# Altium integrated library Linear Technology Power Management Switching Regulator LT1074-LT8705.IntLib: 2252 symbols (part 21 of 148)
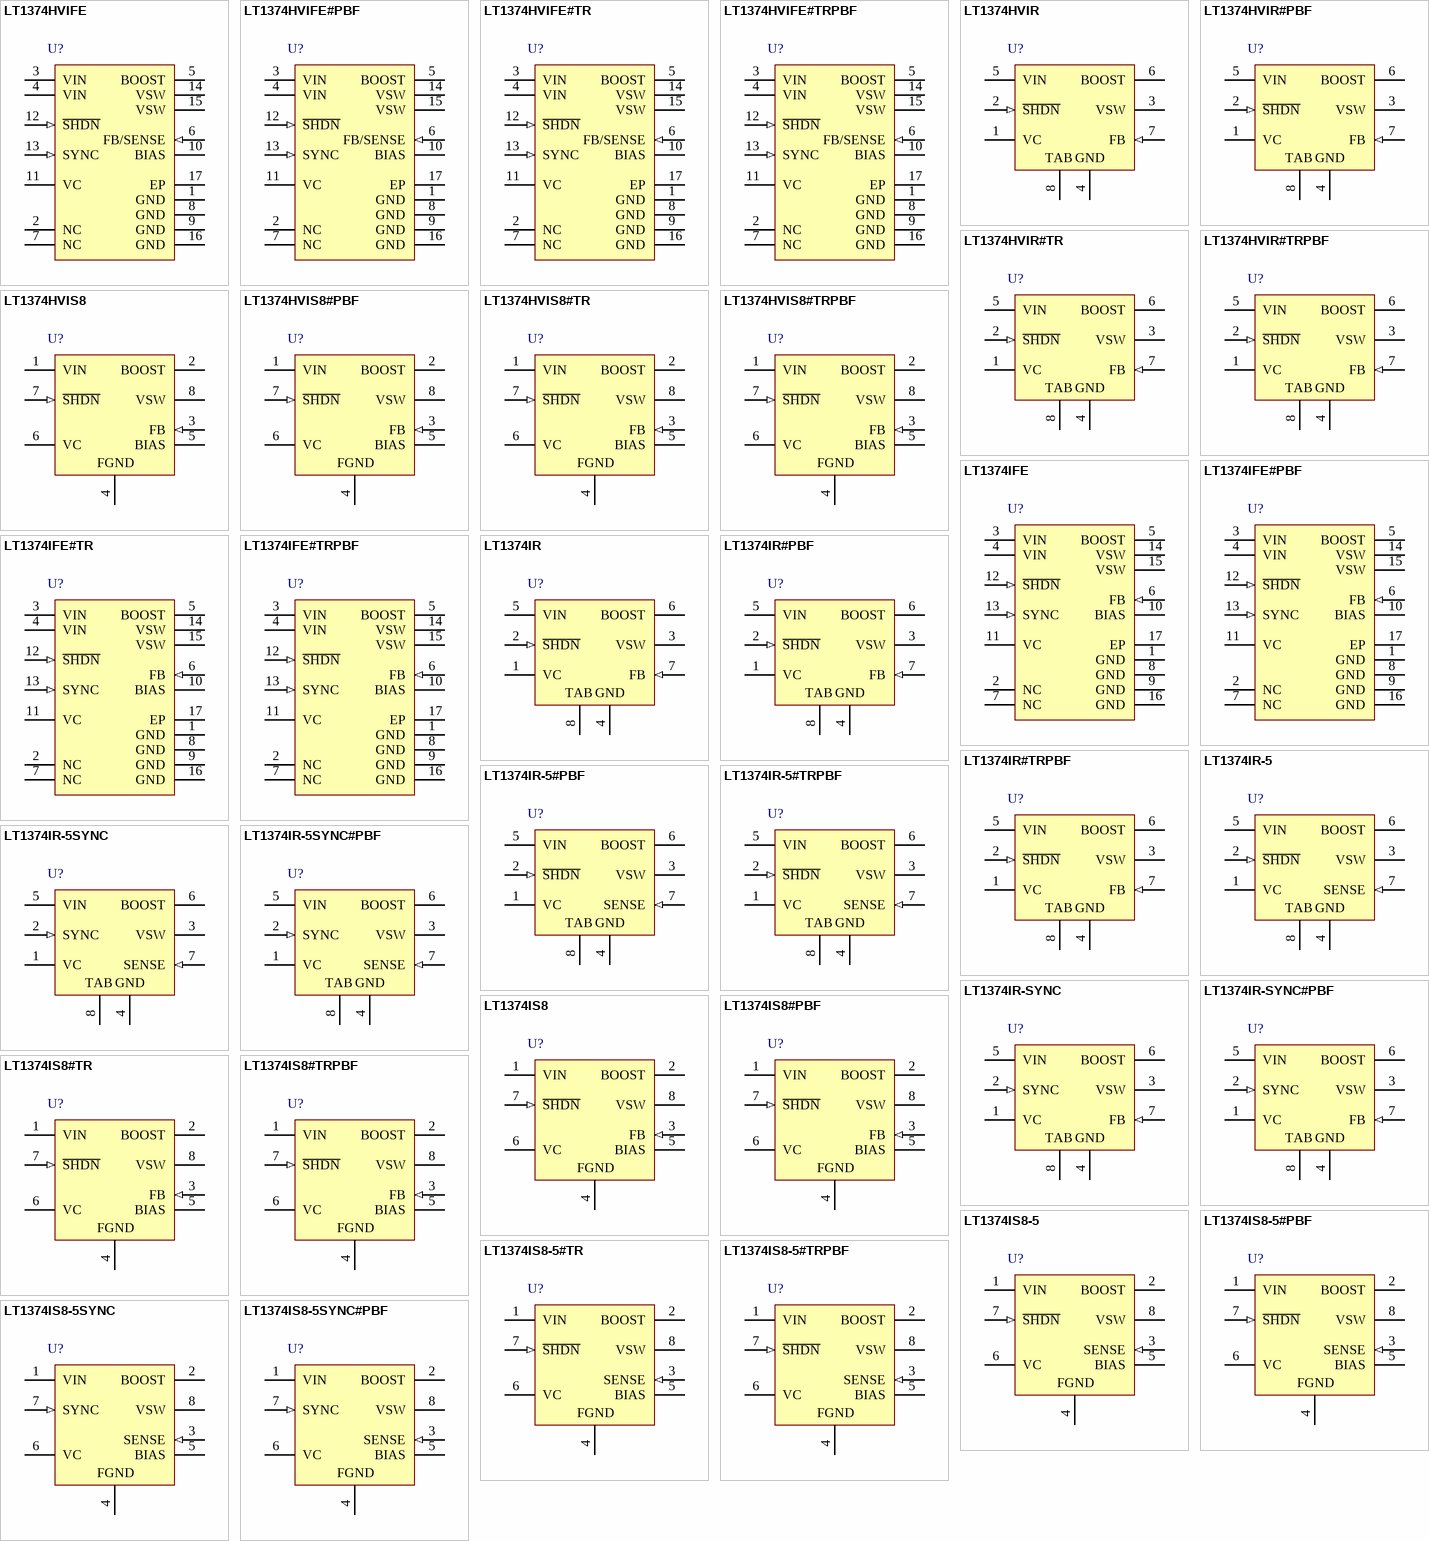
[diagram p91: symbols LT1374HVIFE to LT1374IS8-5SYNC#PBF]

## LT1374IS8-5SYNC#PBF
designator U?
4.5 A, 500 kHz Step-Down Switching Regulator, 8-pin SOIC (S8-8), -40 to 125 degC, Pb-Free; Manufacturer: Linear Technology; PartNumber: LT1374IS8-5SYNC#PBF; Frequency Sync Range: 580kHz - 1MHz; Number of Outputs: 1; DatasheetVersion: Rev. D; PackageVersion: Rev. G, 03/2012; PackageReference: S8-8; PackageDescription: 8-Pin Plastic Small Outline (Narrow .150 Inch), Body 4.9 x 3.9 mm, Pitch 1.27 mm; Supplier 1: Digi-Key; Supplier Part Number 1: LT1374IS8-5SYNC#PBF-ND; RoHS: TRUE; Mounting Technology: Surface Mount; ComponentLink1Description: Manufacturer URL; ComponentLink1URL: http://www.linear.com/; ComponentLink2Description: Datasheet; ComponentLink2URL: http://cds.linear.com/docs/en/datasheet/1374fd.pdf; ComponentLink3Description: Package Specification; ComponentLink3URL: http://cds.linear.com/docs/en/packaging/05081610_G_SO8.pdf
footprint LT-S8-8_N (SOIC, 8-Leads, Body 5x4mm, Pitch 1.27mm, IPC Medium Density)
footprint LT-S8-8_L (SOIC, 8-Leads, Body 5x4mm, Pitch 1.27mm, IPC High Density)
footprint LT-S8-8_M (SOIC, 8-Leads, Body 5x4mm, Pitch 1.27mm, IPC Low Density)
pins: 1 VIN (power) "This is the collector of the on-chip power NPN switch. This pin powers the internal circuitry and internal regulator when the BIAS pin is not present. At NPN switch on and off, high dI/dt edges occur on this pin. Keep the (See Datasheet)", 2 BOOST "The BOOST pin is used to provide a drive voltage, higher than the input voltage, to the internal bipolar NPN power switch. Without this added voltage, the typical switch voltage loss would be about 1.5V. The additional boost (See Datasheet)", 3 SENSE (in) "The feedback pin is the input to the error amplifier which is referenced to an internal 2.42V source. An external resistive divider is used to set the output voltage. The fixed voltage (-5) parts have the divider included (See Datasheet)", 4 FGND (power), 5 BIAS (power) "The BIAS pin is used to improve efficiency when operating at higher input voltages and light load current. Connecting this pin to the regulated output voltage forces most of the internal circuitry to draw its operating (See Datasheet)", 6 VC "The VC pin is the output of the error amplifier and the input of the peak switch current comparator. It is normally used for frequency compensation, but can do double duty as a current clamp or control loop override. This (See Datasheet)", 7 SYNC (in) "The sync pin is used to synchronize the internal oscillator to an external signal. It is directly logic compatible and can be driven with any signal between 10% and 90% duty cycle. The synchronizing range is equal to initial (See Datasheet)", 8 VSW (power) "The switch pin is the emitter of the on-chip power NPN switch. This pin is driven up to the input pin voltage during switch on time. Inductor current drives the switch pin negative during switch off time. Negative voltage is (See Datasheet)"

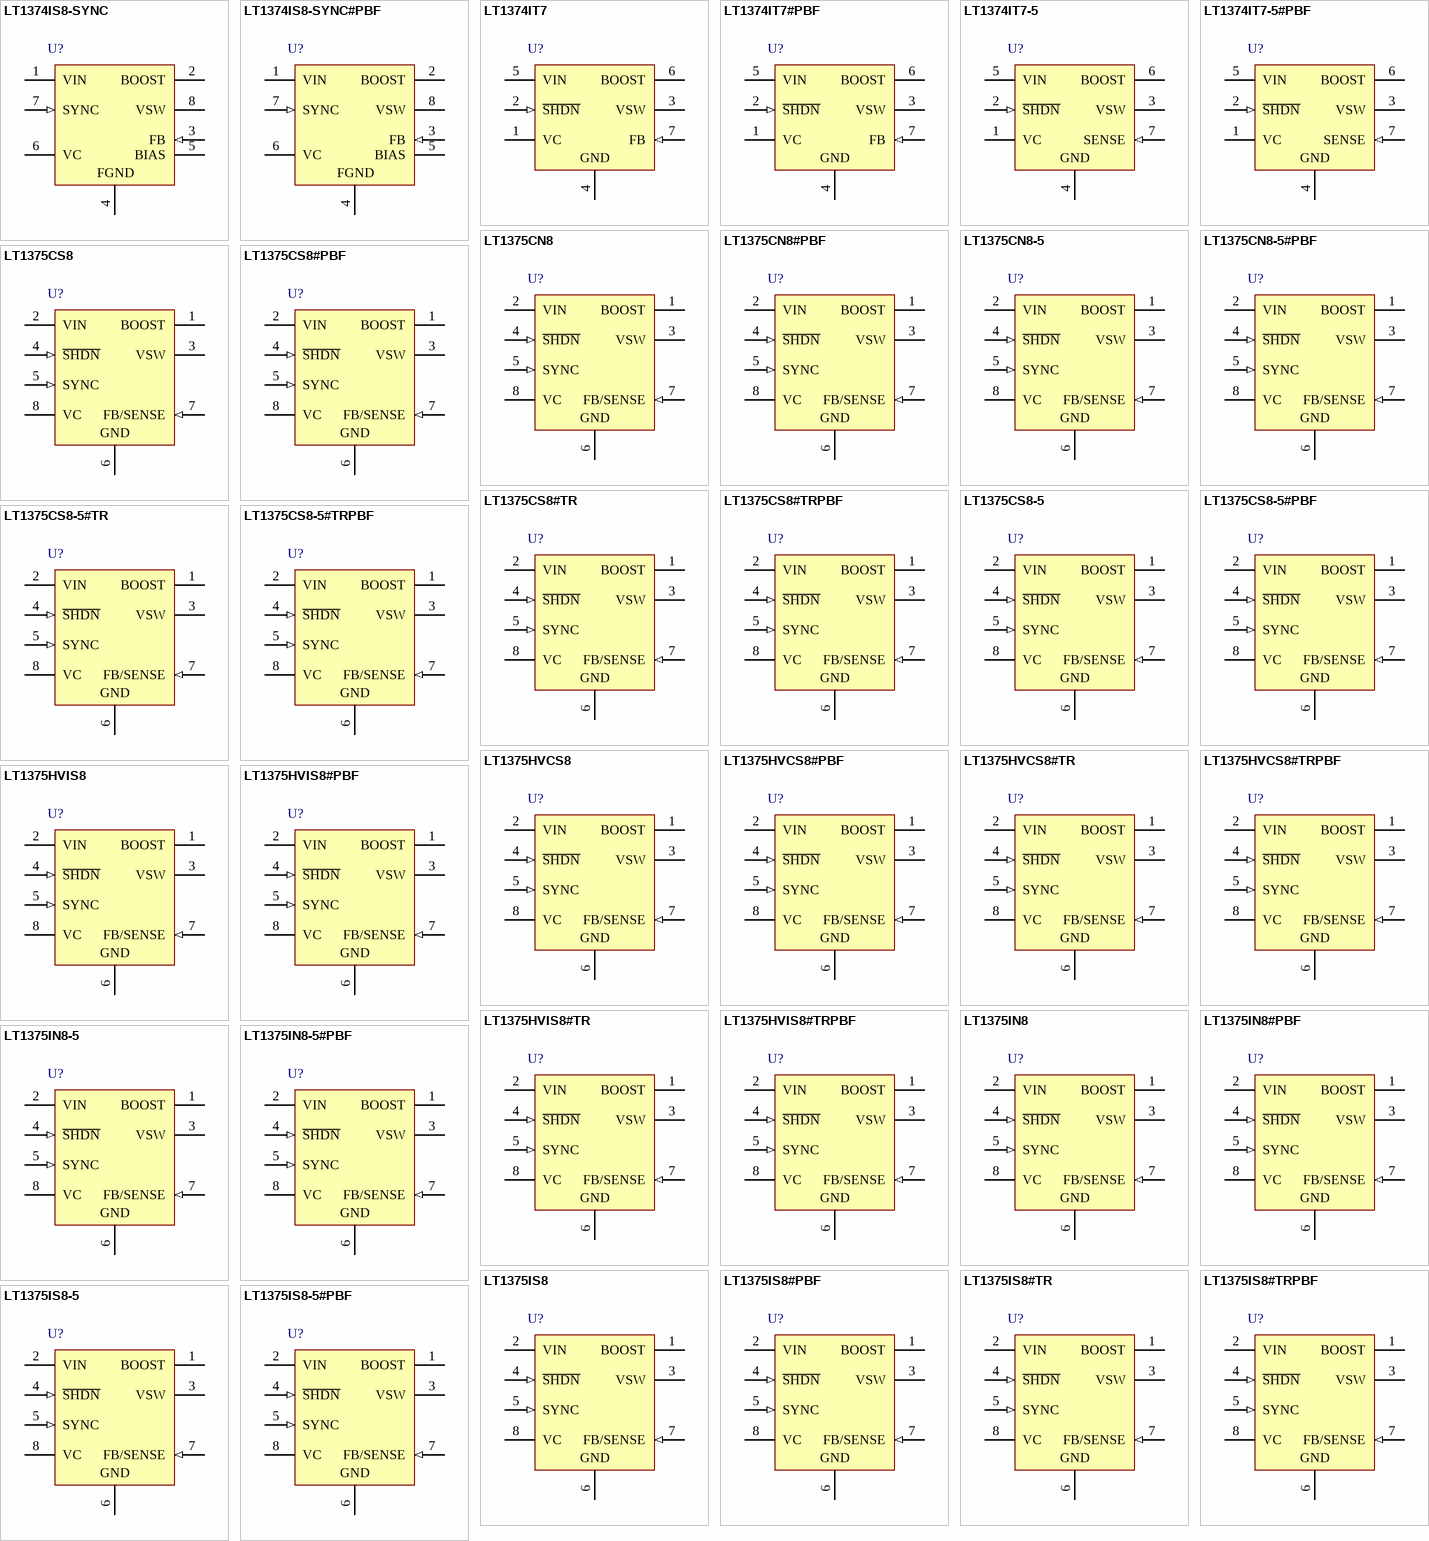
[diagram p12: symbols LT1374IS8-SYNC to LT1375IS8-5#PBF]

## LT1374IS8-SYNC
designator U?
4.5 A, 500 kHz Step-Down Switching Regulator, 8-pin SOIC (S8-8), -40 to 125 degC; Manufacturer: Linear Technology; PartNumber: LT1374IS8-SYNC; Frequency Sync Range: 580kHz - 1MHz; Number of Outputs: 1; DatasheetVersion: Rev. D; PackageVersion: Rev. G, 03/2012; PackageReference: S8-8; PackageDescription: 8-Pin Plastic Small Outline (Narrow .150 Inch), Body 4.9 x 3.9 mm, Pitch 1.27 mm; Supplier 1: Digi-Key; Supplier Part Number 1: LT1374IS8-SYNC-ND; RoHS: FALSE; Mounting Technology: Surface Mount; ComponentLink1Description: Manufacturer URL; ComponentLink1URL: http://www.linear.com/; ComponentLink2Description: Datasheet; ComponentLink2URL: http://cds.linear.com/docs/en/datasheet/1374fd.pdf; ComponentLink3Description: Package Specification; ComponentLink3URL: http://cds.linear.com/docs/en/packaging/05081610_G_SO8.pdf
footprint LT-S8-8_N (SOIC, 8-Leads, Body 5x4mm, Pitch 1.27mm, IPC Medium Density)
footprint LT-S8-8_L (SOIC, 8-Leads, Body 5x4mm, Pitch 1.27mm, IPC High Density)
footprint LT-S8-8_M (SOIC, 8-Leads, Body 5x4mm, Pitch 1.27mm, IPC Low Density)
pins: 1 VIN (power) "This is the collector of the on-chip power NPN switch. This pin powers the internal circuitry and internal regulator when the BIAS pin is not present. At NPN switch on and off, high dI/dt edges occur on this pin. Keep the (See Datasheet)", 2 BOOST "The BOOST pin is used to provide a drive voltage, higher than the input voltage, to the internal bipolar NPN power switch. Without this added voltage, the typical switch voltage loss would be about 1.5V. The additional boost (See Datasheet)", 3 FB (in) "The feedback pin is the input to the error amplifier which is referenced to an internal 2.42V source. An external resistive divider is used to set the output voltage. The fixed voltage (-5) parts have the divider included (See Datasheet)", 4 FGND (power), 5 BIAS (power) "The BIAS pin is used to improve efficiency when operating at higher input voltages and light load current. Connecting this pin to the regulated output voltage forces most of the internal circuitry to draw its operating (See Datasheet)", 6 VC "The VC pin is the output of the error amplifier and the input of the peak switch current comparator. It is normally used for frequency compensation, but can do double duty as a current clamp or control loop override. This (See Datasheet)", 7 SYNC (in) "The sync pin is used to synchronize the internal oscillator to an external signal. It is directly logic compatible and can be driven with any signal between 10% and 90% duty cycle. The synchronizing range is equal to initial (See Datasheet)", 8 VSW (power) "The switch pin is the emitter of the on-chip power NPN switch. This pin is driven up to the input pin voltage during switch on time. Inductor current drives the switch pin negative during switch off time. Negative voltage is (See Datasheet)"

## LT1374IS8-SYNC#PBF
designator U?
4.5 A, 500 kHz Step-Down Switching Regulator, 8-pin SOIC (S8-8), -40 to 125 degC, Pb-Free; Manufacturer: Linear Technology; PartNumber: LT1374IS8-SYNC#PBF; Frequency Sync Range: 580kHz - 1MHz; Number of Outputs: 1; DatasheetVersion: Rev. D; PackageVersion: Rev. G, 03/2012; PackageReference: S8-8; PackageDescription: 8-Pin Plastic Small Outline (Narrow .150 Inch), Body 4.9 x 3.9 mm, Pitch 1.27 mm; Supplier 1: Digi-Key; Supplier Part Number 1: LT1374IS8-SYNC#PBF-ND; RoHS: TRUE; Mounting Technology: Surface Mount; ComponentLink1Description: Manufacturer URL; ComponentLink1URL: http://www.linear.com/; ComponentLink2Description: Datasheet; ComponentLink2URL: http://cds.linear.com/docs/en/datasheet/1374fd.pdf; ComponentLink3Description: Package Specification; ComponentLink3URL: http://cds.linear.com/docs/en/packaging/05081610_G_SO8.pdf
footprint LT-S8-8_N (SOIC, 8-Leads, Body 5x4mm, Pitch 1.27mm, IPC Medium Density)
footprint LT-S8-8_L (SOIC, 8-Leads, Body 5x4mm, Pitch 1.27mm, IPC High Density)
footprint LT-S8-8_M (SOIC, 8-Leads, Body 5x4mm, Pitch 1.27mm, IPC Low Density)
pins: 1 VIN (power) "This is the collector of the on-chip power NPN switch. This pin powers the internal circuitry and internal regulator when the BIAS pin is not present. At NPN switch on and off, high dI/dt edges occur on this pin. Keep the (See Datasheet)", 2 BOOST "The BOOST pin is used to provide a drive voltage, higher than the input voltage, to the internal bipolar NPN power switch. Without this added voltage, the typical switch voltage loss would be about 1.5V. The additional boost (See Datasheet)", 3 FB (in) "The feedback pin is the input to the error amplifier which is referenced to an internal 2.42V source. An external resistive divider is used to set the output voltage. The fixed voltage (-5) parts have the divider included (See Datasheet)", 4 FGND (power), 5 BIAS (power) "The BIAS pin is used to improve efficiency when operating at higher input voltages and light load current. Connecting this pin to the regulated output voltage forces most of the internal circuitry to draw its operating (See Datasheet)", 6 VC "The VC pin is the output of the error amplifier and the input of the peak switch current comparator. It is normally used for frequency compensation, but can do double duty as a current clamp or control loop override. This (See Datasheet)", 7 SYNC (in) "The sync pin is used to synchronize the internal oscillator to an external signal. It is directly logic compatible and can be driven with any signal between 10% and 90% duty cycle. The synchronizing range is equal to initial (See Datasheet)", 8 VSW (power) "The switch pin is the emitter of the on-chip power NPN switch. This pin is driven up to the input pin voltage during switch on time. Inductor current drives the switch pin negative during switch off time. Negative voltage is (See Datasheet)"

## LT1374IT7
designator U?
4.5 A, 500 kHz Step-Down Switching Regulator, 7-pin FM (T7-7), -40 to 125 degC; Manufacturer: Linear Technology; PartNumber: LT1374IT7; Frequency Sync Range: 580kHz - 1MHz; Number of Outputs: 1; DatasheetVersion: Rev. D; PackageVersion: Jun-10; PackageReference: T7-7; PackageDescription: 7-Pin Plastic TO-220 (Straight Lead), Body 10.224 x 4.382 mm, Pitch 1.27 mm; Supplier 1: Digi-Key; Supplier Part Number 1: LT1374IT7-ND; RoHS: FALSE; Mounting Technology: Through Hole; ComponentLink1Description: Manufacturer URL; ComponentLink1URL: http://www.linear.com/; ComponentLink2Description: Datasheet; ComponentLink2URL: http://cds.linear.com/docs/en/datasheet/1374fd.pdf; ComponentLink3Description: Package Specification; ComponentLink3URL: http://www.linear.com/docs/en/packaging/TO-220_7_05-08-1422_STRAIGHT_LEAD.pdf
footprint LT-T7-7-S_V (FM, 7-Leads, Body 10.55x4.6mm, Pitch 1.27mm)
pins: 1 VC "The VC pin is the output of the error amplifier and the input of the peak switch current comparator. It is normally used for frequency compensation, but can do double duty as a current clamp or control loop override. This (See Datasheet)", 2 ~{SHDN} (in) "The shutdown pin is used to turn off the regulator and to reduce input drain current to a few microamperes. Actually, this pin has two separate thresholds, one at 2.38V to disable switching, and a second at 0.4V to force (See Datasheet)", 3 VSW (power) "The switch pin is the emitter of the on-chip power NPN switch. This pin is driven up to the input pin voltage during switch on time. Inductor current drives the switch pin negative during switch off time. Negative voltage is (See Datasheet)", 4 GND (power) "The GND pin connection needs consideration for two reasons. First, it acts as the reference for the regulated output, so load regulation will suffer if the “ground?end of the load is not at the same voltage as the (See Datasheet)", 5 VIN (power) "This is the collector of the on-chip power NPN switch. This pin powers the internal circuitry and internal regulator when the BIAS pin is not present. At NPN switch on and off, high dI/dt edges occur on this pin. Keep the (See Datasheet)", 6 BOOST "The BOOST pin is used to provide a drive voltage, higher than the input voltage, to the internal bipolar NPN power switch. Without this added voltage, the typical switch voltage loss would be about 1.5V. The additional boost (See Datasheet)", 7 FB (in) "The feedback pin is the input to the error amplifier which is referenced to an internal 2.42V source. An external resistive divider is used to set the output voltage. The fixed voltage (-5) parts have the divider included (See Datasheet)"

## LT1374IT7#PBF
designator U?
4.5 A, 500 kHz Step-Down Switching Regulator, 7-pin FM (T7-7), -40 to 125 degC, Pb-Free; Manufacturer: Linear Technology; PartNumber: LT1374IT7#PBF; Frequency Sync Range: 580kHz - 1MHz; Number of Outputs: 1; DatasheetVersion: Rev. D; PackageVersion: Jun-10; PackageReference: T7-7; PackageDescription: 7-Pin Plastic TO-220 (Straight Lead), Body 10.224 x 4.382 mm, Pitch 1.27 mm; Supplier 1: Digi-Key; Supplier Part Number 1: LT1374IT7#PBF-ND; RoHS: TRUE; Mounting Technology: Through Hole; ComponentLink1Description: Manufacturer URL; ComponentLink1URL: http://www.linear.com/; ComponentLink2Description: Datasheet; ComponentLink2URL: http://cds.linear.com/docs/en/datasheet/1374fd.pdf; ComponentLink3Description: Package Specification; ComponentLink3URL: http://www.linear.com/docs/en/packaging/TO-220_7_05-08-1422_STRAIGHT_LEAD.pdf
footprint LT-T7-7-S_V (FM, 7-Leads, Body 10.55x4.6mm, Pitch 1.27mm)
pins: 1 VC "The VC pin is the output of the error amplifier and the input of the peak switch current comparator. It is normally used for frequency compensation, but can do double duty as a current clamp or control loop override. This (See Datasheet)", 2 ~{SHDN} (in) "The shutdown pin is used to turn off the regulator and to reduce input drain current to a few microamperes. Actually, this pin has two separate thresholds, one at 2.38V to disable switching, and a second at 0.4V to force (See Datasheet)", 3 VSW (power) "The switch pin is the emitter of the on-chip power NPN switch. This pin is driven up to the input pin voltage during switch on time. Inductor current drives the switch pin negative during switch off time. Negative voltage is (See Datasheet)", 4 GND (power) "The GND pin connection needs consideration for two reasons. First, it acts as the reference for the regulated output, so load regulation will suffer if the “ground?end of the load is not at the same voltage as the (See Datasheet)", 5 VIN (power) "This is the collector of the on-chip power NPN switch. This pin powers the internal circuitry and internal regulator when the BIAS pin is not present. At NPN switch on and off, high dI/dt edges occur on this pin. Keep the (See Datasheet)", 6 BOOST "The BOOST pin is used to provide a drive voltage, higher than the input voltage, to the internal bipolar NPN power switch. Without this added voltage, the typical switch voltage loss would be about 1.5V. The additional boost (See Datasheet)", 7 FB (in) "The feedback pin is the input to the error amplifier which is referenced to an internal 2.42V source. An external resistive divider is used to set the output voltage. The fixed voltage (-5) parts have the divider included (See Datasheet)"

## LT1374IT7-5
designator U?
4.5 A, 500 kHz Step-Down Switching Regulator, 7-pin FM (T7-7), -40 to 125 degC; Manufacturer: Linear Technology; PartNumber: LT1374IT7-5; Frequency Sync Range: 580kHz - 1MHz; Number of Outputs: 1; DatasheetVersion: Rev. D; PackageVersion: Jun-10; PackageReference: T7-7; PackageDescription: 7-Pin Plastic TO-220 (Straight Lead), Body 10.224 x 4.382 mm, Pitch 1.27 mm; Supplier 1: Digi-Key; Supplier Part Number 1: LT1374IT7-5-ND; RoHS: FALSE; Mounting Technology: Through Hole; ComponentLink1Description: Manufacturer URL; ComponentLink1URL: http://www.linear.com/; ComponentLink2Description: Datasheet; ComponentLink2URL: http://cds.linear.com/docs/en/datasheet/1374fd.pdf; ComponentLink3Description: Package Specification; ComponentLink3URL: http://www.linear.com/docs/en/packaging/TO-220_7_05-08-1422_STRAIGHT_LEAD.pdf
footprint LT-T7-7-S_V (FM, 7-Leads, Body 10.55x4.6mm, Pitch 1.27mm)
pins: 1 VC "The VC pin is the output of the error amplifier and the input of the peak switch current comparator. It is normally used for frequency compensation, but can do double duty as a current clamp or control loop override. This (See Datasheet)", 2 ~{SHDN} (in) "The shutdown pin is used to turn off the regulator and to reduce input drain current to a few microamperes. Actually, this pin has two separate thresholds, one at 2.38V to disable switching, and a second at 0.4V to force (See Datasheet)", 3 VSW (power) "The switch pin is the emitter of the on-chip power NPN switch. This pin is driven up to the input pin voltage during switch on time. Inductor current drives the switch pin negative during switch off time. Negative voltage is (See Datasheet)", 4 GND (power) "The GND pin connection needs consideration for two reasons. First, it acts as the reference for the regulated output, so load regulation will suffer if the “ground?end of the load is not at the same voltage as the (See Datasheet)", 5 VIN (power) "This is the collector of the on-chip power NPN switch. This pin powers the internal circuitry and internal regulator when the BIAS pin is not present. At NPN switch on and off, high dI/dt edges occur on this pin. Keep the (See Datasheet)", 6 BOOST "The BOOST pin is used to provide a drive voltage, higher than the input voltage, to the internal bipolar NPN power switch. Without this added voltage, the typical switch voltage loss would be about 1.5V. The additional boost (See Datasheet)", 7 SENSE (in) "The feedback pin is the input to the error amplifier which is referenced to an internal 2.42V source. An external resistive divider is used to set the output voltage. The fixed voltage (-5) parts have the divider included (See Datasheet)"

## LT1374IT7-5#PBF
designator U?
4.5 A, 500 kHz Step-Down Switching Regulator, 7-pin FM (T7-7), -40 to 125 degC, Pb-Free; Manufacturer: Linear Technology; PartNumber: LT1374IT7-5#PBF; Frequency Sync Range: 580kHz - 1MHz; Number of Outputs: 1; DatasheetVersion: Rev. D; PackageVersion: Jun-10; PackageReference: T7-7; PackageDescription: 7-Pin Plastic TO-220 (Straight Lead), Body 10.224 x 4.382 mm, Pitch 1.27 mm; Supplier 1: Digi-Key; Supplier Part Number 1: LT1374IT7-5#PBF-ND; RoHS: TRUE; Mounting Technology: Through Hole; ComponentLink1Description: Manufacturer URL; ComponentLink1URL: http://www.linear.com/; ComponentLink2Description: Datasheet; ComponentLink2URL: http://cds.linear.com/docs/en/datasheet/1374fd.pdf; ComponentLink3Description: Package Specification; ComponentLink3URL: http://www.linear.com/docs/en/packaging/TO-220_7_05-08-1422_STRAIGHT_LEAD.pdf
footprint LT-T7-7-S_V (FM, 7-Leads, Body 10.55x4.6mm, Pitch 1.27mm)
pins: 1 VC "The VC pin is the output of the error amplifier and the input of the peak switch current comparator. It is normally used for frequency compensation, but can do double duty as a current clamp or control loop override. This (See Datasheet)", 2 ~{SHDN} (in) "The shutdown pin is used to turn off the regulator and to reduce input drain current to a few microamperes. Actually, this pin has two separate thresholds, one at 2.38V to disable switching, and a second at 0.4V to force (See Datasheet)", 3 VSW (power) "The switch pin is the emitter of the on-chip power NPN switch. This pin is driven up to the input pin voltage during switch on time. Inductor current drives the switch pin negative during switch off time. Negative voltage is (See Datasheet)", 4 GND (power) "The GND pin connection needs consideration for two reasons. First, it acts as the reference for the regulated output, so load regulation will suffer if the “ground?end of the load is not at the same voltage as the (See Datasheet)", 5 VIN (power) "This is the collector of the on-chip power NPN switch. This pin powers the internal circuitry and internal regulator when the BIAS pin is not present. At NPN switch on and off, high dI/dt edges occur on this pin. Keep the (See Datasheet)", 6 BOOST "The BOOST pin is used to provide a drive voltage, higher than the input voltage, to the internal bipolar NPN power switch. Without this added voltage, the typical switch voltage loss would be about 1.5V. The additional boost (See Datasheet)", 7 SENSE (in) "The feedback pin is the input to the error amplifier which is referenced to an internal 2.42V source. An external resistive divider is used to set the output voltage. The fixed voltage (-5) parts have the divider included (See Datasheet)"

## LT1375CN8
designator U?
1.5 A, 500 kHz Step-Down Switching Regulator, 8-pin DIP (N8-8), 0 to 125 degC; Manufacturer: Linear Technology; PartNumber: LT1375CN8; Frequency Sync Range: 580kHz - 900kHz; Number of Outputs: 1; DatasheetVersion: Rev. D; PackageVersion: Rev. I, 07/2011; PackageReference: N8-8; PackageDescription: 8-Pin PDIP, Body 10.16 x 6.48 mm, Pitch 2.54 mm; Supplier 1: Digi-Key; Supplier Part Number 1: LT1375CN8-ND; Supplier 2: Farnell; Supplier Part Number 2: 3862239; RoHS: FALSE; Mounting Technology: Through Hole; ComponentLink1Description: Manufacturer URL; ComponentLink1URL: http://www.linear.com/; ComponentLink2Description: Datasheet; ComponentLink2URL: http://cds.linear.com/docs/en/datasheet/13756fd.pdf; ComponentLink3Description: Package Specification; ComponentLink3URL: http://www.linear.com/docs/en/packaging/05081510_I_N8.pdf
footprint LT-N8-8 (DIP, 8-Leads, Body 10.15x6.85mm, Pitch 2.54mm)
pins: 1 BOOST "The BOOST pin is used to provide a drive voltage, higher than the input voltage, to the internal bipolar NPN power switch. Without this added voltage, the typical switch voltage loss would be about 1.5V. The additional boost (See Datasheet)", 2 VIN (power) "This is the collector of the on-chip power NPN switch. This pin powers the internal circuitry and internal regulator when the BIAS pin is not present. At NPN switch on and off, high dl/dt edges occur on this pin. Keep the (See Datasheet)", 3 VSW (power) "The switch pin is the emitter of the on-chip power NPN switch. It is driven up to the input pin voltage during switch on time. Inductor current drives the switch pin negative during switch off time. Negative voltage is (See Datasheet)", 4 ~{SHDN} (in) "The shutdown pin is used to turn off the regulator and to reduce input drain current to a few microamperes. Actually, this pin has two separate thresholds, one at 2.38V to disable switching, and a second at 0.4V to force (See Datasheet)", 5 SYNC (in) "The SYNC pin is used to synchronize the internal oscillator to an external signal. It is directly logic compatible and can be driven with any signal between 10% and 90% duty cycle. The synchronizing range is equal to initial (See Datasheet)", 6 GND (power) "The GND pin connection needs consideration for two reasons. First, it acts as the reference for the regulated output, so load regulation will suffer if the “ground” end of the load is not at the same voltage as the (See Datasheet)", 7 FB/SENSE (in) "The feedback pin is used to set output voltage, using an external voltage divider that generates 2.42V at the pin with the desired output voltage. The fixed voltage (-5) parts have the divider included on the chip, and the (See Datasheet)", 8 VC "The VC pin is the output of the error amplifier and the input of the peak switch current comparator. It is normally used for frequency compensation, but can do double duty as a current clamp or control loop override. This (See Datasheet)"

## LT1375CN8#PBF
designator U?
1.5 A, 500 kHz Step-Down Switching Regulator, 8-pin DIP (N8-8), 0 to 125 degC, Pb-Free; Manufacturer: Linear Technology; PartNumber: LT1375CN8#PBF; Frequency Sync Range: 580kHz - 900kHz; Number of Outputs: 1; DatasheetVersion: Rev. D; PackageVersion: Rev. I, 07/2011; PackageReference: N8-8; PackageDescription: 8-Pin PDIP, Body 10.16 x 6.48 mm, Pitch 2.54 mm; Supplier 1: Digi-Key; Supplier Part Number 1: LT1375CN8#PBF-ND; Supplier 2: Farnell; Supplier Part Number 2: 9560491; RoHS: TRUE; Mounting Technology: Through Hole; ComponentLink1Description: Manufacturer URL; ComponentLink1URL: http://www.linear.com/; ComponentLink2Description: Datasheet; ComponentLink2URL: http://cds.linear.com/docs/en/datasheet/13756fd.pdf; ComponentLink3Description: Package Specification; ComponentLink3URL: http://www.linear.com/docs/en/packaging/05081510_I_N8.pdf
footprint LT-N8-8 (DIP, 8-Leads, Body 10.15x6.85mm, Pitch 2.54mm)
pins: 1 BOOST "The BOOST pin is used to provide a drive voltage, higher than the input voltage, to the internal bipolar NPN power switch. Without this added voltage, the typical switch voltage loss would be about 1.5V. The additional boost (See Datasheet)", 2 VIN (power) "This is the collector of the on-chip power NPN switch. This pin powers the internal circuitry and internal regulator when the BIAS pin is not present. At NPN switch on and off, high dl/dt edges occur on this pin. Keep the (See Datasheet)", 3 VSW (power) "The switch pin is the emitter of the on-chip power NPN switch. It is driven up to the input pin voltage during switch on time. Inductor current drives the switch pin negative during switch off time. Negative voltage is (See Datasheet)", 4 ~{SHDN} (in) "The shutdown pin is used to turn off the regulator and to reduce input drain current to a few microamperes. Actually, this pin has two separate thresholds, one at 2.38V to disable switching, and a second at 0.4V to force (See Datasheet)", 5 SYNC (in) "The SYNC pin is used to synchronize the internal oscillator to an external signal. It is directly logic compatible and can be driven with any signal between 10% and 90% duty cycle. The synchronizing range is equal to initial (See Datasheet)", 6 GND (power) "The GND pin connection needs consideration for two reasons. First, it acts as the reference for the regulated output, so load regulation will suffer if the “ground” end of the load is not at the same voltage as the (See Datasheet)", 7 FB/SENSE (in) "The feedback pin is used to set output voltage, using an external voltage divider that generates 2.42V at the pin with the desired output voltage. The fixed voltage (-5) parts have the divider included on the chip, and the (See Datasheet)", 8 VC "The VC pin is the output of the error amplifier and the input of the peak switch current comparator. It is normally used for frequency compensation, but can do double duty as a current clamp or control loop override. This (See Datasheet)"

## LT1375CN8-5
designator U?
1.5 A, 500 kHz Step-Down Switching Regulator, 8-pin DIP (N8-8), 0 to 125 degC; Manufacturer: Linear Technology; PartNumber: LT1375CN8-5; Frequency Sync Range: 580kHz - 900kHz; Number of Outputs: 1; DatasheetVersion: Rev. D; PackageVersion: Rev. I, 07/2011; PackageReference: N8-8; PackageDescription: 8-Pin PDIP, Body 10.16 x 6.48 mm, Pitch 2.54 mm; Supplier 1: Digi-Key; Supplier Part Number 1: LT1375CN8-5-ND; RoHS: FALSE; Mounting Technology: Through Hole; ComponentLink1Description: Manufacturer URL; ComponentLink1URL: http://www.linear.com/; ComponentLink2Description: Datasheet; ComponentLink2URL: http://cds.linear.com/docs/en/datasheet/13756fd.pdf; ComponentLink3Description: Package Specification; ComponentLink3URL: http://www.linear.com/docs/en/packaging/05081510_I_N8.pdf
footprint LT-N8-8 (DIP, 8-Leads, Body 10.15x6.85mm, Pitch 2.54mm)
pins: 1 BOOST "The BOOST pin is used to provide a drive voltage, higher than the input voltage, to the internal bipolar NPN power switch. Without this added voltage, the typical switch voltage loss would be about 1.5V. The additional boost (See Datasheet)", 2 VIN (power) "This is the collector of the on-chip power NPN switch. This pin powers the internal circuitry and internal regulator when the BIAS pin is not present. At NPN switch on and off, high dl/dt edges occur on this pin. Keep the (See Datasheet)", 3 VSW (power) "The switch pin is the emitter of the on-chip power NPN switch. It is driven up to the input pin voltage during switch on time. Inductor current drives the switch pin negative during switch off time. Negative voltage is (See Datasheet)", 4 ~{SHDN} (in) "The shutdown pin is used to turn off the regulator and to reduce input drain current to a few microamperes. Actually, this pin has two separate thresholds, one at 2.38V to disable switching, and a second at 0.4V to force (See Datasheet)", 5 SYNC (in) "The SYNC pin is used to synchronize the internal oscillator to an external signal. It is directly logic compatible and can be driven with any signal between 10% and 90% duty cycle. The synchronizing range is equal to initial (See Datasheet)", 6 GND (power) "The GND pin connection needs consideration for two reasons. First, it acts as the reference for the regulated output, so load regulation will suffer if the “ground” end of the load is not at the same voltage as the (See Datasheet)", 7 FB/SENSE (in) "The feedback pin is used to set output voltage, using an external voltage divider that generates 2.42V at the pin with the desired output voltage. The fixed voltage (-5) parts have the divider included on the chip, and the (See Datasheet)", 8 VC "The VC pin is the output of the error amplifier and the input of the peak switch current comparator. It is normally used for frequency compensation, but can do double duty as a current clamp or control loop override. This (See Datasheet)"

## LT1375CN8-5#PBF
designator U?
1.5 A, 500 kHz Step-Down Switching Regulator, 8-pin DIP (N8-8), 0 to 125 degC, Pb-Free; Manufacturer: Linear Technology; PartNumber: LT1375CN8-5#PBF; Frequency Sync Range: 580kHz - 900kHz; Number of Outputs: 1; DatasheetVersion: Rev. D; PackageVersion: Rev. I, 07/2011; PackageReference: N8-8; PackageDescription: 8-Pin PDIP, Body 10.16 x 6.48 mm, Pitch 2.54 mm; Supplier 1: Digi-Key; Supplier Part Number 1: LT1375CN8-5#PBF-ND; RoHS: TRUE; Mounting Technology: Through Hole; ComponentLink1Description: Manufacturer URL; ComponentLink1URL: http://www.linear.com/; ComponentLink2Description: Datasheet; ComponentLink2URL: http://cds.linear.com/docs/en/datasheet/13756fd.pdf; ComponentLink3Description: Package Specification; ComponentLink3URL: http://www.linear.com/docs/en/packaging/05081510_I_N8.pdf
footprint LT-N8-8 (DIP, 8-Leads, Body 10.15x6.85mm, Pitch 2.54mm)
pins: 1 BOOST "The BOOST pin is used to provide a drive voltage, higher than the input voltage, to the internal bipolar NPN power switch. Without this added voltage, the typical switch voltage loss would be about 1.5V. The additional boost (See Datasheet)", 2 VIN (power) "This is the collector of the on-chip power NPN switch. This pin powers the internal circuitry and internal regulator when the BIAS pin is not present. At NPN switch on and off, high dl/dt edges occur on this pin. Keep the (See Datasheet)", 3 VSW (power) "The switch pin is the emitter of the on-chip power NPN switch. It is driven up to the input pin voltage during switch on time. Inductor current drives the switch pin negative during switch off time. Negative voltage is (See Datasheet)", 4 ~{SHDN} (in) "The shutdown pin is used to turn off the regulator and to reduce input drain current to a few microamperes. Actually, this pin has two separate thresholds, one at 2.38V to disable switching, and a second at 0.4V to force (See Datasheet)", 5 SYNC (in) "The SYNC pin is used to synchronize the internal oscillator to an external signal. It is directly logic compatible and can be driven with any signal between 10% and 90% duty cycle. The synchronizing range is equal to initial (See Datasheet)", 6 GND (power) "The GND pin connection needs consideration for two reasons. First, it acts as the reference for the regulated output, so load regulation will suffer if the “ground” end of the load is not at the same voltage as the (See Datasheet)", 7 FB/SENSE (in) "The feedback pin is used to set output voltage, using an external voltage divider that generates 2.42V at the pin with the desired output voltage. The fixed voltage (-5) parts have the divider included on the chip, and the (See Datasheet)", 8 VC "The VC pin is the output of the error amplifier and the input of the peak switch current comparator. It is normally used for frequency compensation, but can do double duty as a current clamp or control loop override. This (See Datasheet)"

## LT1375CS8
designator U?
1.5 A, 500 kHz Step-Down Switching Regulator, 8-pin SOIC (S8-8), 0 to 125 degC; Manufacturer: Linear Technology; PartNumber: LT1375CS8; Frequency Sync Range: 580kHz - 900kHz; Number of Outputs: 1; DatasheetVersion: Rev. D; PackageVersion: Rev. G, 03/2012; PackageReference: S8-8; PackageDescription: 8-Pin Plastic Small Outline (Narrow .150 Inch), Body 4.9 x 3.9 mm, Pitch 1.27 mm; Supplier 1: Digi-Key; Supplier Part Number 1: LT1375CS8-ND; RoHS: FALSE; Mounting Technology: Surface Mount; ComponentLink1Description: Manufacturer URL; ComponentLink1URL: http://www.linear.com/; ComponentLink2Description: Datasheet; ComponentLink2URL: http://cds.linear.com/docs/en/datasheet/13756fd.pdf; ComponentLink3Description: Package Specification; ComponentLink3URL: http://cds.linear.com/docs/en/packaging/05081610_G_SO8.pdf
footprint LT-S8-8_N (SOIC, 8-Leads, Body 5x4mm, Pitch 1.27mm, IPC Medium Density)
footprint LT-S8-8_L (SOIC, 8-Leads, Body 5x4mm, Pitch 1.27mm, IPC High Density)
footprint LT-S8-8_M (SOIC, 8-Leads, Body 5x4mm, Pitch 1.27mm, IPC Low Density)
pins: 1 BOOST "The BOOST pin is used to provide a drive voltage, higher than the input voltage, to the internal bipolar NPN power switch. Without this added voltage, the typical switch voltage loss would be about 1.5V. The additional boost (See Datasheet)", 2 VIN (power) "This is the collector of the on-chip power NPN switch. This pin powers the internal circuitry and internal regulator when the BIAS pin is not present. At NPN switch on and off, high dl/dt edges occur on this pin. Keep the (See Datasheet)", 3 VSW (power) "The switch pin is the emitter of the on-chip power NPN switch. It is driven up to the input pin voltage during switch on time. Inductor current drives the switch pin negative during switch off time. Negative voltage is (See Datasheet)", 4 ~{SHDN} (in) "The shutdown pin is used to turn off the regulator and to reduce input drain current to a few microamperes. Actually, this pin has two separate thresholds, one at 2.38V to disable switching, and a second at 0.4V to force (See Datasheet)", 5 SYNC (in) "The SYNC pin is used to synchronize the internal oscillator to an external signal. It is directly logic compatible and can be driven with any signal between 10% and 90% duty cycle. The synchronizing range is equal to initial (See Datasheet)", 6 GND (power) "The GND pin connection needs consideration for two reasons. First, it acts as the reference for the regulated output, so load regulation will suffer if the “ground” end of the load is not at the same voltage as the (See Datasheet)", 7 FB/SENSE (in) "The feedback pin is used to set output voltage, using an external voltage divider that generates 2.42V at the pin with the desired output voltage. The fixed voltage (-5) parts have the divider included on the chip, and the (See Datasheet)", 8 VC "The VC pin is the output of the error amplifier and the input of the peak switch current comparator. It is normally used for frequency compensation, but can do double duty as a current clamp or control loop override. This (See Datasheet)"

## LT1375CS8#PBF
designator U?
1.5 A, 500 kHz Step-Down Switching Regulator, 8-pin SOIC (S8-8), 0 to 125 degC, Pb-Free; Manufacturer: Linear Technology; PartNumber: LT1375CS8#PBF; Frequency Sync Range: 580kHz - 900kHz; Number of Outputs: 1; DatasheetVersion: Rev. D; PackageVersion: Rev. G, 03/2012; PackageReference: S8-8; PackageDescription: 8-Pin Plastic Small Outline (Narrow .150 Inch), Body 4.9 x 3.9 mm, Pitch 1.27 mm; Supplier 1: Digi-Key; Supplier Part Number 1: LT1375CS8#PBF-ND; Supplier 2: Farnell; Supplier Part Number 2: 1273743; Supplier 3: Newark; Supplier Part Number 3: 57M3751; RoHS: TRUE; Mounting Technology: Surface Mount; ComponentLink1Description: Manufacturer URL; ComponentLink1URL: http://www.linear.com/; ComponentLink2Description: Datasheet; ComponentLink2URL: http://cds.linear.com/docs/en/datasheet/13756fd.pdf; ComponentLink3Description: Package Specification; ComponentLink3URL: http://cds.linear.com/docs/en/packaging/05081610_G_SO8.pdf
footprint LT-S8-8_N (SOIC, 8-Leads, Body 5x4mm, Pitch 1.27mm, IPC Medium Density)
footprint LT-S8-8_L (SOIC, 8-Leads, Body 5x4mm, Pitch 1.27mm, IPC High Density)
footprint LT-S8-8_M (SOIC, 8-Leads, Body 5x4mm, Pitch 1.27mm, IPC Low Density)
pins: 1 BOOST "The BOOST pin is used to provide a drive voltage, higher than the input voltage, to the internal bipolar NPN power switch. Without this added voltage, the typical switch voltage loss would be about 1.5V. The additional boost (See Datasheet)", 2 VIN (power) "This is the collector of the on-chip power NPN switch. This pin powers the internal circuitry and internal regulator when the BIAS pin is not present. At NPN switch on and off, high dl/dt edges occur on this pin. Keep the (See Datasheet)", 3 VSW (power) "The switch pin is the emitter of the on-chip power NPN switch. It is driven up to the input pin voltage during switch on time. Inductor current drives the switch pin negative during switch off time. Negative voltage is (See Datasheet)", 4 ~{SHDN} (in) "The shutdown pin is used to turn off the regulator and to reduce input drain current to a few microamperes. Actually, this pin has two separate thresholds, one at 2.38V to disable switching, and a second at 0.4V to force (See Datasheet)", 5 SYNC (in) "The SYNC pin is used to synchronize the internal oscillator to an external signal. It is directly logic compatible and can be driven with any signal between 10% and 90% duty cycle. The synchronizing range is equal to initial (See Datasheet)", 6 GND (power) "The GND pin connection needs consideration for two reasons. First, it acts as the reference for the regulated output, so load regulation will suffer if the “ground” end of the load is not at the same voltage as the (See Datasheet)", 7 FB/SENSE (in) "The feedback pin is used to set output voltage, using an external voltage divider that generates 2.42V at the pin with the desired output voltage. The fixed voltage (-5) parts have the divider included on the chip, and the (See Datasheet)", 8 VC "The VC pin is the output of the error amplifier and the input of the peak switch current comparator. It is normally used for frequency compensation, but can do double duty as a current clamp or control loop override. This (See Datasheet)"

## LT1375CS8#TR
designator U?
1.5 A, 500 kHz Step-Down Switching Regulator, 8-pin SOIC (S8-8), 0 to 125 degC, Tape and Reel; Manufacturer: Linear Technology; PartNumber: LT1375CS8#TR; Frequency Sync Range: 580kHz - 900kHz; Number of Outputs: 1; DatasheetVersion: Rev. D; PackageVersion: Rev. G, 03/2012; PackageReference: S8-8; PackageDescription: 8-Pin Plastic Small Outline (Narrow .150 Inch), Body 4.9 x 3.9 mm, Pitch 1.27 mm; Supplier 1: Digi-Key; Supplier Part Number 1: LT1375CS8#TR-ND; Packing: Tape and Reel; RoHS: FALSE; Mounting Technology: Surface Mount; ComponentLink1Description: Manufacturer URL; ComponentLink1URL: http://www.linear.com/; ComponentLink2Description: Datasheet; ComponentLink2URL: http://cds.linear.com/docs/en/datasheet/13756fd.pdf; ComponentLink3Description: Package Specification; ComponentLink3URL: http://cds.linear.com/docs/en/packaging/05081610_G_SO8.pdf
footprint LT-S8-8_N (SOIC, 8-Leads, Body 5x4mm, Pitch 1.27mm, IPC Medium Density)
footprint LT-S8-8_L (SOIC, 8-Leads, Body 5x4mm, Pitch 1.27mm, IPC High Density)
footprint LT-S8-8_M (SOIC, 8-Leads, Body 5x4mm, Pitch 1.27mm, IPC Low Density)
pins: 1 BOOST "The BOOST pin is used to provide a drive voltage, higher than the input voltage, to the internal bipolar NPN power switch. Without this added voltage, the typical switch voltage loss would be about 1.5V. The additional boost (See Datasheet)", 2 VIN (power) "This is the collector of the on-chip power NPN switch. This pin powers the internal circuitry and internal regulator when the BIAS pin is not present. At NPN switch on and off, high dl/dt edges occur on this pin. Keep the (See Datasheet)", 3 VSW (power) "The switch pin is the emitter of the on-chip power NPN switch. It is driven up to the input pin voltage during switch on time. Inductor current drives the switch pin negative during switch off time. Negative voltage is (See Datasheet)", 4 ~{SHDN} (in) "The shutdown pin is used to turn off the regulator and to reduce input drain current to a few microamperes. Actually, this pin has two separate thresholds, one at 2.38V to disable switching, and a second at 0.4V to force (See Datasheet)", 5 SYNC (in) "The SYNC pin is used to synchronize the internal oscillator to an external signal. It is directly logic compatible and can be driven with any signal between 10% and 90% duty cycle. The synchronizing range is equal to initial (See Datasheet)", 6 GND (power) "The GND pin connection needs consideration for two reasons. First, it acts as the reference for the regulated output, so load regulation will suffer if the “ground” end of the load is not at the same voltage as the (See Datasheet)", 7 FB/SENSE (in) "The feedback pin is used to set output voltage, using an external voltage divider that generates 2.42V at the pin with the desired output voltage. The fixed voltage (-5) parts have the divider included on the chip, and the (See Datasheet)", 8 VC "The VC pin is the output of the error amplifier and the input of the peak switch current comparator. It is normally used for frequency compensation, but can do double duty as a current clamp or control loop override. This (See Datasheet)"

## LT1375CS8#TRPBF
designator U?
1.5 A, 500 kHz Step-Down Switching Regulator, 8-pin SOIC (S8-8), 0 to 125 degC, Pb-Free, Tape and Reel; Manufacturer: Linear Technology; PartNumber: LT1375CS8#TRPBF; Frequency Sync Range: 580kHz - 900kHz; Number of Outputs: 1; DatasheetVersion: Rev. D; PackageVersion: Rev. G, 03/2012; PackageReference: S8-8; PackageDescription: 8-Pin Plastic Small Outline (Narrow .150 Inch), Body 4.9 x 3.9 mm, Pitch 1.27 mm; Supplier 1: Digi-Key; Supplier Part Number 1: LT1375CS8#TRPBF-ND; Supplier 2: Newark; Supplier Part Number 2: 57M3753; Packing: Tape and Reel; RoHS: TRUE; Mounting Technology: Surface Mount; ComponentLink1Description: Manufacturer URL; ComponentLink1URL: http://www.linear.com/; ComponentLink2Description: Datasheet; ComponentLink2URL: http://cds.linear.com/docs/en/datasheet/13756fd.pdf; ComponentLink3Description: Package Specification; ComponentLink3URL: http://cds.linear.com/docs/en/packaging/05081610_G_SO8.pdf
footprint LT-S8-8_N (SOIC, 8-Leads, Body 5x4mm, Pitch 1.27mm, IPC Medium Density)
footprint LT-S8-8_L (SOIC, 8-Leads, Body 5x4mm, Pitch 1.27mm, IPC High Density)
footprint LT-S8-8_M (SOIC, 8-Leads, Body 5x4mm, Pitch 1.27mm, IPC Low Density)
pins: 1 BOOST "The BOOST pin is used to provide a drive voltage, higher than the input voltage, to the internal bipolar NPN power switch. Without this added voltage, the typical switch voltage loss would be about 1.5V. The additional boost (See Datasheet)", 2 VIN (power) "This is the collector of the on-chip power NPN switch. This pin powers the internal circuitry and internal regulator when the BIAS pin is not present. At NPN switch on and off, high dl/dt edges occur on this pin. Keep the (See Datasheet)", 3 VSW (power) "The switch pin is the emitter of the on-chip power NPN switch. It is driven up to the input pin voltage during switch on time. Inductor current drives the switch pin negative during switch off time. Negative voltage is (See Datasheet)", 4 ~{SHDN} (in) "The shutdown pin is used to turn off the regulator and to reduce input drain current to a few microamperes. Actually, this pin has two separate thresholds, one at 2.38V to disable switching, and a second at 0.4V to force (See Datasheet)", 5 SYNC (in) "The SYNC pin is used to synchronize the internal oscillator to an external signal. It is directly logic compatible and can be driven with any signal between 10% and 90% duty cycle. The synchronizing range is equal to initial (See Datasheet)", 6 GND (power) "The GND pin connection needs consideration for two reasons. First, it acts as the reference for the regulated output, so load regulation will suffer if the “ground” end of the load is not at the same voltage as the (See Datasheet)", 7 FB/SENSE (in) "The feedback pin is used to set output voltage, using an external voltage divider that generates 2.42V at the pin with the desired output voltage. The fixed voltage (-5) parts have the divider included on the chip, and the (See Datasheet)", 8 VC "The VC pin is the output of the error amplifier and the input of the peak switch current comparator. It is normally used for frequency compensation, but can do double duty as a current clamp or control loop override. This (See Datasheet)"

## LT1375CS8-5
designator U?
1.5 A, 500 kHz Step-Down Switching Regulator, 8-pin SOIC (S8-8), 0 to 125 degC; Manufacturer: Linear Technology; PartNumber: LT1375CS8-5; Frequency Sync Range: 580kHz - 900kHz; Number of Outputs: 1; DatasheetVersion: Rev. D; PackageVersion: Rev. G, 03/2012; PackageReference: S8-8; PackageDescription: 8-Pin Plastic Small Outline (Narrow .150 Inch), Body 4.9 x 3.9 mm, Pitch 1.27 mm; Supplier 1: Digi-Key; Supplier Part Number 1: LT1375CS8-5-ND; RoHS: FALSE; Mounting Technology: Surface Mount; ComponentLink1Description: Manufacturer URL; ComponentLink1URL: http://www.linear.com/; ComponentLink2Description: Datasheet; ComponentLink2URL: http://cds.linear.com/docs/en/datasheet/13756fd.pdf; ComponentLink3Description: Package Specification; ComponentLink3URL: http://cds.linear.com/docs/en/packaging/05081610_G_SO8.pdf
footprint LT-S8-8_N (SOIC, 8-Leads, Body 5x4mm, Pitch 1.27mm, IPC Medium Density)
footprint LT-S8-8_L (SOIC, 8-Leads, Body 5x4mm, Pitch 1.27mm, IPC High Density)
footprint LT-S8-8_M (SOIC, 8-Leads, Body 5x4mm, Pitch 1.27mm, IPC Low Density)
pins: 1 BOOST "The BOOST pin is used to provide a drive voltage, higher than the input voltage, to the internal bipolar NPN power switch. Without this added voltage, the typical switch voltage loss would be about 1.5V. The additional boost (See Datasheet)", 2 VIN (power) "This is the collector of the on-chip power NPN switch. This pin powers the internal circuitry and internal regulator when the BIAS pin is not present. At NPN switch on and off, high dl/dt edges occur on this pin. Keep the (See Datasheet)", 3 VSW (power) "The switch pin is the emitter of the on-chip power NPN switch. It is driven up to the input pin voltage during switch on time. Inductor current drives the switch pin negative during switch off time. Negative voltage is (See Datasheet)", 4 ~{SHDN} (in) "The shutdown pin is used to turn off the regulator and to reduce input drain current to a few microamperes. Actually, this pin has two separate thresholds, one at 2.38V to disable switching, and a second at 0.4V to force (See Datasheet)", 5 SYNC (in) "The SYNC pin is used to synchronize the internal oscillator to an external signal. It is directly logic compatible and can be driven with any signal between 10% and 90% duty cycle. The synchronizing range is equal to initial (See Datasheet)", 6 GND (power) "The GND pin connection needs consideration for two reasons. First, it acts as the reference for the regulated output, so load regulation will suffer if the “ground” end of the load is not at the same voltage as the (See Datasheet)", 7 FB/SENSE (in) "The feedback pin is used to set output voltage, using an external voltage divider that generates 2.42V at the pin with the desired output voltage. The fixed voltage (-5) parts have the divider included on the chip, and the (See Datasheet)", 8 VC "The VC pin is the output of the error amplifier and the input of the peak switch current comparator. It is normally used for frequency compensation, but can do double duty as a current clamp or control loop override. This (See Datasheet)"